# Altium footprint library Molex Footprints.PcbLib: 498 footprints (part 17 of 32)
Each footprint in its own frame and in the unit in brackets; x right, y up, seen from the top. Pads: shape width x height; smd on the part's side, far side on the other; paste and mask are expansions set on the pad; w line width, h text height; cw(c..) or ccw(c..) is an arc to the next point about the centre after c.
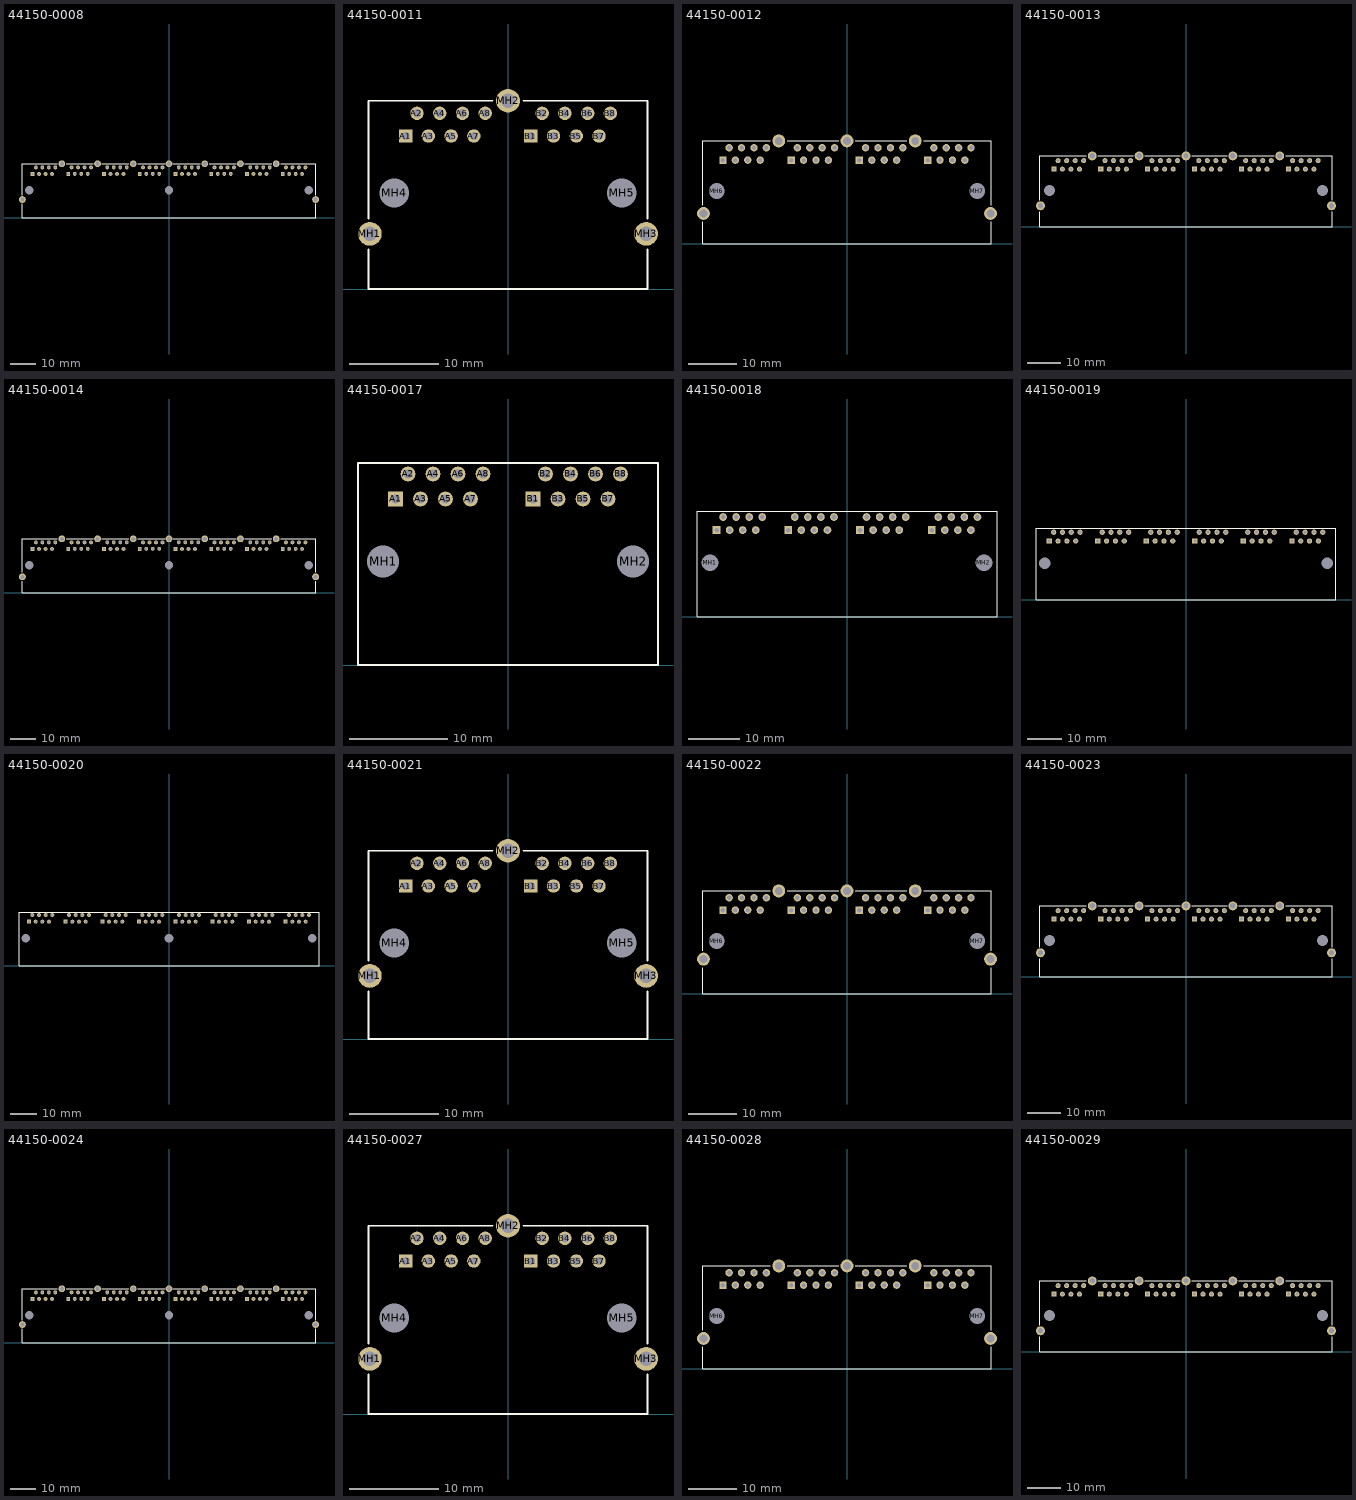
[diagram p16: the footprints below, top view; thin cyan lines are the x and y axes]

## 44150-0008 [mm] "Connector; PCB Jack, Thru-Hole; 8-Port, 8 Positions, 8 Loaded; Shielded without Lightpipes; Right Angle"
height 13.31
pads (76):
  rect 1.5x1.5 hole 0.9: A1(-53.34,17.09) B1(-39.37,17.09) C1(-25.4,17.09) D1(-11.43,17.09) E1(2.54,17.09) F1(16.51,17.09) G1(30.48,17.09) H1(44.45,17.09)
  round 1.5 hole 0.9: A2(-52.07,19.63) A3(-50.8,17.09) A4(-49.53,19.63) A5(-48.26,17.09) A6(-46.99,19.63) A7(-45.72,17.09) A8(-44.45,19.63) B2(-38.1,19.63) B3(-36.83,17.09) B4(-35.56,19.63) B5(-34.29,17.09) B6(-33.02,19.63) B7(-31.75,17.09) B8(-30.48,19.63) C2(-24.13,19.63) C3(-22.86,17.09) C4(-21.59,19.63) C5(-20.32,17.09) C6(-19.05,19.63) C7(-17.78,17.09) C8(-16.51,19.63) D2(-10.16,19.63) D3(-8.89,17.09) D4(-7.62,19.63) D5(-6.35,17.09) D6(-5.08,19.63) D7(-3.81,17.09) D8(-2.54,19.63) E2(3.81,19.63) E3(5.08,17.09) E4(6.35,19.63) E5(7.62,17.09) E6(8.89,19.63) E7(10.16,17.09) E8(11.43,19.63) F2(17.78,19.63) F3(19.05,17.09) F4(20.32,19.63) F5(21.59,17.09) F6(22.86,19.63) F7(24.13,17.09) F8(25.4,19.63) G2(31.75,19.63) G3(33.02,17.09) G4(34.29,19.63) G5(35.56,17.09) G6(36.83,19.63) G7(38.1,17.09) G8(39.37,19.63) H2(45.72,19.63) H3(46.99,17.09) H4(48.26,19.63) H5(49.53,17.09) H6(50.8,19.63) H7(52.07,17.09) H8(53.34,19.63)
  round 2.65 hole 1.6: MH1(-57.328,7.057) MH2(-41.91,21.052) MH3(-27.94,21.052) MH4(-13.97,21.052) MH5(0,21.052) MH6(13.97,21.052) MH7(27.94,21.052) MH8(41.91,21.052) MH9(57.328,7.057)
  round 2.95 hole 3.25 unplated: MH10(-54.61,10.74) MH11(0,10.74) MH12(54.61,10.74)
Top Overlay:
  lines w0.2: -57.47,5.338 -57.47,0 57.47,0 57.47,5.338 ; -57.47,8.776 -57.47,21.02 -43.635,21.02 ; -40.185,21.02 -29.665,21.02 ; -26.215,21.02 -15.695,21.02 ; -12.245,21.02 -1.725,21.02 ; 1.725,21.02 12.245,21.02 ; 15.695,21.02 26.215,21.02 ; 29.665,21.02 40.185,21.02 ; 43.635,21.02 57.47,21.02 57.47,8.776

## 44150-0011 [mm] "Connector; PCB Jack, Thru-Hole; 2-Port, 8 Positions, 8 Loaded; Shielded without Lightpipes; Right Angle"
height 13.31
pads (21):
  rect 1.5x1.5 hole 0.9: A1(-11.43,17.09) B1(2.54,17.09)
  round 1.5 hole 0.9: A2(-10.16,19.63) A3(-8.89,17.09) A4(-7.62,19.63) A5(-6.35,17.09) A6(-5.08,19.63) A7(-3.81,17.09) A8(-2.54,19.63) B2(3.81,19.63) B3(5.08,17.09) B4(6.35,19.63) B5(7.62,17.09) B6(8.89,19.63) B7(10.16,17.09) B8(11.43,19.63)
  round 2.65 hole 1.6: MH1(-15.418,6.168) MH2(0,21.027) MH3(15.418,6.168)
  round 2.95 hole 3.25 unplated: MH4(-12.7,10.74) MH5(12.7,10.74)
Top Overlay:
  lines w0.2: -15.56,4.449 -15.56,0 15.56,0 15.56,4.449 ; -15.56,7.887 -15.56,21.02 -1.725,21.02 ; 1.725,21.02 15.56,21.02 15.56,7.887

## 44150-0012 [mm] "Connector; PCB Jack, Thru-Hole; 4-Port, 8 Positions, 8 Loaded; Shielded without Lightpipes; Right Angle"
height 13.31
pads (39):
  rect 1.5x1.5 hole 0.9: A1(-25.4,17.09) B1(-11.43,17.09) C1(2.54,17.09) D1(16.51,17.09)
  round 1.5 hole 0.9: A2(-24.13,19.63) A3(-22.86,17.09) A4(-21.59,19.63) A5(-20.32,17.09) A6(-19.05,19.63) A7(-17.78,17.09) A8(-16.51,19.63) B2(-10.16,19.63) B3(-8.89,17.09) B4(-7.62,19.63) B5(-6.35,17.09) B6(-5.08,19.63) B7(-3.81,17.09) B8(-2.54,19.63) C2(3.81,19.63) C3(5.08,17.09) C4(6.35,19.63) C5(7.62,17.09) C6(8.89,19.63) C7(10.16,17.09) C8(11.43,19.63) D2(17.78,19.63) D3(19.05,17.09) D4(20.32,19.63) D5(21.59,17.09) D6(22.86,19.63) D7(24.13,17.09) D8(25.4,19.63)
  round 2.65 hole 1.6: MH1(-29.388,6.168) MH2(-13.97,21.027) MH3(0,21.027) MH4(13.97,21.027) MH5(29.388,6.168)
  round 2.95 hole 3.25 unplated: MH6(-26.67,10.74) MH7(26.67,10.74)
Top Overlay:
  lines w0.2: -29.53,4.449 -29.53,0 29.53,0 29.53,4.449 ; -29.53,7.887 -29.53,21.02 -15.695,21.02 ; -12.245,21.02 -1.725,21.02 ; 1.725,21.02 12.245,21.02 ; 15.695,21.02 29.53,21.02 29.53,7.887

## 44150-0013 [mm] "Connector; PCB Jack, Thru-Hole; 6-Port, 8 Positions, 8 Loaded; Shielded without Lightpipes; Right Angle"
height 13.31
pads (57):
  rect 1.5x1.5 hole 0.9: A1(-39.37,17.09) B1(-25.4,17.09) C1(-11.43,17.09) D1(2.54,17.09) E1(16.51,17.09) F1(30.48,17.09)
  round 1.5 hole 0.9: A2(-38.1,19.63) A3(-36.83,17.09) A4(-35.56,19.63) A5(-34.29,17.09) A6(-33.02,19.63) A7(-31.75,17.09) A8(-30.48,19.63) B2(-24.13,19.63) B3(-22.86,17.09) B4(-21.59,19.63) B5(-20.32,17.09) B6(-19.05,19.63) B7(-17.78,17.09) B8(-16.51,19.63) C2(-10.16,19.63) C3(-8.89,17.09) C4(-7.62,19.63) C5(-6.35,17.09) C6(-5.08,19.63) C7(-3.81,17.09) C8(-2.54,19.63) D2(3.81,19.63) D3(5.08,17.09) D4(6.35,19.63) D5(7.62,17.09) D6(8.89,19.63) D7(10.16,17.09) D8(11.43,19.63) E2(17.78,19.63) E3(19.05,17.09) E4(20.32,19.63) E5(21.59,17.09) E6(22.86,19.63) E7(24.13,17.09) E8(25.4,19.63) F2(31.75,19.63) F3(33.02,17.09) F4(34.29,19.63) F5(35.56,17.09) F6(36.83,19.63) F7(38.1,17.09) F8(39.37,19.63)
  round 2.65 hole 1.6: MH1(-43.358,6.168) MH2(-27.94,21.027) MH3(-13.97,21.027) MH4(0,21.027) MH5(13.97,21.027) MH6(27.94,21.027) MH7(43.358,6.168)
  round 2.95 hole 3.25 unplated: MH8(-40.64,10.74) MH9(40.64,10.74)
Top Overlay:
  lines w0.2: -43.5,4.449 -43.5,0 43.5,0 43.5,4.449 ; -43.5,7.887 -43.5,21.02 -29.665,21.02 ; -26.215,21.02 -15.695,21.02 ; -12.245,21.02 -1.725,21.02 ; 1.725,21.02 12.245,21.02 ; 15.695,21.02 26.215,21.02 ; 29.665,21.02 43.5,21.02 43.5,7.887

## 44150-0014 [mm] "Connector; PCB Jack, Thru-Hole; 8-Port, 8 Positions, 8 Loaded; Shielded without Lightpipes; Right Angle"
height 13.31
pads (76):
  rect 1.5x1.5 hole 0.9: A1(-53.34,17.09) B1(-39.37,17.09) C1(-25.4,17.09) D1(-11.43,17.09) E1(2.54,17.09) F1(16.51,17.09) G1(30.48,17.09) H1(44.45,17.09)
  round 1.5 hole 0.9: A2(-52.07,19.63) A3(-50.8,17.09) A4(-49.53,19.63) A5(-48.26,17.09) A6(-46.99,19.63) A7(-45.72,17.09) A8(-44.45,19.63) B2(-38.1,19.63) B3(-36.83,17.09) B4(-35.56,19.63) B5(-34.29,17.09) B6(-33.02,19.63) B7(-31.75,17.09) B8(-30.48,19.63) C2(-24.13,19.63) C3(-22.86,17.09) C4(-21.59,19.63) C5(-20.32,17.09) C6(-19.05,19.63) C7(-17.78,17.09) C8(-16.51,19.63) D2(-10.16,19.63) D3(-8.89,17.09) D4(-7.62,19.63) D5(-6.35,17.09) D6(-5.08,19.63) D7(-3.81,17.09) D8(-2.54,19.63) E2(3.81,19.63) E3(5.08,17.09) E4(6.35,19.63) E5(7.62,17.09) E6(8.89,19.63) E7(10.16,17.09) E8(11.43,19.63) F2(17.78,19.63) F3(19.05,17.09) F4(20.32,19.63) F5(21.59,17.09) F6(22.86,19.63) F7(24.13,17.09) F8(25.4,19.63) G2(31.75,19.63) G3(33.02,17.09) G4(34.29,19.63) G5(35.56,17.09) G6(36.83,19.63) G7(38.1,17.09) G8(39.37,19.63) H2(45.72,19.63) H3(46.99,17.09) H4(48.26,19.63) H5(49.53,17.09) H6(50.8,19.63) H7(52.07,17.09) H8(53.34,19.63)
  round 2.65 hole 1.6: MH1(-57.328,6.168) MH2(-41.91,21.027) MH3(-27.94,21.027) MH4(-13.97,21.027) MH5(0,21.027) MH6(13.97,21.027) MH7(27.94,21.027) MH8(41.91,21.027) MH9(57.328,6.168)
  round 2.95 hole 3.25 unplated: MH10(-54.61,10.74) MH11(0,10.74) MH12(54.61,10.74)
Top Overlay:
  lines w0.2: -57.47,4.449 -57.47,0 57.47,0 57.47,4.449 ; -57.47,7.887 -57.47,21.02 -43.635,21.02 ; -40.185,21.02 -29.665,21.02 ; -26.215,21.02 -15.695,21.02 ; -12.245,21.02 -1.725,21.02 ; 1.725,21.02 12.245,21.02 ; 15.695,21.02 26.215,21.02 ; 29.665,21.02 40.185,21.02 ; 43.635,21.02 57.47,21.02 57.47,7.887

## 44150-0017 [mm] "Connector; PCB Jack, Thru-Hole; 2-Port, 8 Positions, 8 Loaded; Unshielded without Lightpipes; Right Angle"
height 12.83
pads (18):
  rect 1.5x1.5 hole 0.9: A1(-11.43,16.89) B1(2.54,16.89)
  round 1.5 hole 0.9: A2(-10.16,19.43) A3(-8.89,16.89) A4(-7.62,19.43) A5(-6.35,16.89) A6(-5.08,19.43) A7(-3.81,16.89) A8(-2.54,19.43) B2(3.81,19.43) B3(5.08,16.89) B4(6.35,19.43) B5(7.62,16.89) B6(8.89,19.43) B7(10.16,16.89) B8(11.43,19.43)
  round 2.95 hole 3.25 unplated: MH1(-12.7,10.54) MH2(12.7,10.54)
Top Overlay:
  lines w0.2: -15.24,0 -15.24,20.57 15.24,20.57 15.24,0 -15.24,0

## 44150-0018 [mm] "Connector; PCB Jack, Thru-Hole; 4-Port, 8 Positions, 8 Loaded; Unshielded without Lightpipes; Right Angle"
height 12.83
pads (34):
  rect 1.5x1.5 hole 0.9: A1(-25.4,16.89) B1(-11.43,16.89) C1(2.54,16.89) D1(16.51,16.89)
  round 1.5 hole 0.9: A2(-24.13,19.43) A3(-22.86,16.89) A4(-21.59,19.43) A5(-20.32,16.89) A6(-19.05,19.43) A7(-17.78,16.89) A8(-16.51,19.43) B2(-10.16,19.43) B3(-8.89,16.89) B4(-7.62,19.43) B5(-6.35,16.89) B6(-5.08,19.43) B7(-3.81,16.89) B8(-2.54,19.43) C2(3.81,19.43) C3(5.08,16.89) C4(6.35,19.43) C5(7.62,16.89) C6(8.89,19.43) C7(10.16,16.89) C8(11.43,19.43) D2(17.78,19.43) D3(19.05,16.89) D4(20.32,19.43) D5(21.59,16.89) D6(22.86,19.43) D7(24.13,16.89) D8(25.4,19.43)
  round 2.95 hole 3.25 unplated: MH1(-26.67,10.54) MH2(26.67,10.54)
Top Overlay:
  lines w0.2: -29.21,0 -29.21,20.57 29.21,20.57 29.21,0 -29.21,0

## 44150-0019 [mm] "Connector; PCB Jack, Thru-Hole; 6-Port, 8 Positions, 8 Loaded; Unshielded without Lightpipes; Right Angle"
height 12.83
pads (50):
  rect 1.5x1.5 hole 0.9: A1(-39.37,16.89) B1(-25.4,16.89) C1(-11.43,16.89) D1(2.54,16.89) E1(16.51,16.89) F1(30.48,16.89)
  round 1.5 hole 0.9: A2(-38.1,19.43) A3(-36.83,16.89) A4(-35.56,19.43) A5(-34.29,16.89) A6(-33.02,19.43) A7(-31.75,16.89) A8(-30.48,19.43) B2(-24.13,19.43) B3(-22.86,16.89) B4(-21.59,19.43) B5(-20.32,16.89) B6(-19.05,19.43) B7(-17.78,16.89) B8(-16.51,19.43) C2(-10.16,19.43) C3(-8.89,16.89) C4(-7.62,19.43) C5(-6.35,16.89) C6(-5.08,19.43) C7(-3.81,16.89) C8(-2.54,19.43) D2(3.81,19.43) D3(5.08,16.89) D4(6.35,19.43) D5(7.62,16.89) D6(8.89,19.43) D7(10.16,16.89) D8(11.43,19.43) E2(17.78,19.43) E3(19.05,16.89) E4(20.32,19.43) E5(21.59,16.89) E6(22.86,19.43) E7(24.13,16.89) E8(25.4,19.43) F2(31.75,19.43) F3(33.02,16.89) F4(34.29,19.43) F5(35.56,16.89) F6(36.83,19.43) F7(38.1,16.89) F8(39.37,19.43)
  round 2.95 hole 3.25 unplated: MH1(-40.64,10.54) MH2(40.64,10.54)
Top Overlay:
  lines w0.2: -43.18,0 -43.18,20.57 43.18,20.57 43.18,0 -43.18,0

## 44150-0020 [mm] "Connector; PCB Jack, Thru-Hole; 8-Port, 8 Positions, 8 Loaded; Unshielded without Lightpipes; Right Angle"
height 12.83
pads (67):
  rect 1.5x1.5 hole 0.9: A1(-53.34,16.89) B1(-39.37,16.89) C1(-25.4,16.89) D1(-11.43,16.89) E1(2.54,16.89) F1(16.51,16.89) G1(30.48,16.89) H1(44.45,16.89)
  round 1.5 hole 0.9: A2(-52.07,19.43) A3(-50.8,16.89) A4(-49.53,19.43) A5(-48.26,16.89) A6(-46.99,19.43) A7(-45.72,16.89) A8(-44.45,19.43) B2(-38.1,19.43) B3(-36.83,16.89) B4(-35.56,19.43) B5(-34.29,16.89) B6(-33.02,19.43) B7(-31.75,16.89) B8(-30.48,19.43) C2(-24.13,19.43) C3(-22.86,16.89) C4(-21.59,19.43) C5(-20.32,16.89) C6(-19.05,19.43) C7(-17.78,16.89) C8(-16.51,19.43) D2(-10.16,19.43) D3(-8.89,16.89) D4(-7.62,19.43) D5(-6.35,16.89) D6(-5.08,19.43) D7(-3.81,16.89) D8(-2.54,19.43) E2(3.81,19.43) E3(5.08,16.89) E4(6.35,19.43) E5(7.62,16.89) E6(8.89,19.43) E7(10.16,16.89) E8(11.43,19.43) F2(17.78,19.43) F3(19.05,16.89) F4(20.32,19.43) F5(21.59,16.89) F6(22.86,19.43) F7(24.13,16.89) F8(25.4,19.43) G2(31.75,19.43) G3(33.02,16.89) G4(34.29,19.43) G5(35.56,16.89) G6(36.83,19.43) G7(38.1,16.89) G8(39.37,19.43) H2(45.72,19.43) H3(46.99,16.89) H4(48.26,19.43) H5(49.53,16.89) H6(50.8,19.43) H7(52.07,16.89) H8(53.34,19.43)
  round 2.95 hole 3.25 unplated: MH1(-54.61,10.54) MH2(0,10.54) MH3(54.61,10.54)
Top Overlay:
  lines w0.2: -57.15,0 -57.15,20.57 57.15,20.57 57.15,0 -57.15,0

## 44150-0021 [mm] "Connector; PCB Jack, Thru-Hole; 2-Port, 8 Positions, 8 Loaded; Shielded without Lightpipes; Right Angle"
height 13.31
pads (21):
  rect 1.5x1.5 hole 0.9: A1(-11.43,17.09) B1(2.54,17.09)
  round 1.5 hole 0.9: A2(-10.16,19.63) A3(-8.89,17.09) A4(-7.62,19.63) A5(-6.35,17.09) A6(-5.08,19.63) A7(-3.81,17.09) A8(-2.54,19.63) B2(3.81,19.63) B3(5.08,17.09) B4(6.35,19.63) B5(7.62,17.09) B6(8.89,19.63) B7(10.16,17.09) B8(11.43,19.63)
  round 2.65 hole 1.6: MH1(-15.418,7.057) MH2(0,21.027) MH3(15.418,7.057)
  round 2.95 hole 3.25 unplated: MH4(-12.7,10.74) MH5(12.7,10.74)
Top Overlay:
  lines w0.2: -15.56,5.338 -15.56,0 15.56,0 15.56,5.338 ; -15.56,8.776 -15.56,21.02 -1.725,21.02 ; 1.725,21.02 15.56,21.02 15.56,8.776

## 44150-0022 [mm] "Connector; PCB Jack, Thru-Hole; 4-Port, 8 Positions, 8 Loaded; Shielded without Lightpipes; Right Angle"
height 13.31
pads (39):
  rect 1.5x1.5 hole 0.9: A1(-25.4,17.09) B1(-11.43,17.09) C1(2.54,17.09) D1(16.51,17.09)
  round 1.5 hole 0.9: A2(-24.13,19.63) A3(-22.86,17.09) A4(-21.59,19.63) A5(-20.32,17.09) A6(-19.05,19.63) A7(-17.78,17.09) A8(-16.51,19.63) B2(-10.16,19.63) B3(-8.89,17.09) B4(-7.62,19.63) B5(-6.35,17.09) B6(-5.08,19.63) B7(-3.81,17.09) B8(-2.54,19.63) C2(3.81,19.63) C3(5.08,17.09) C4(6.35,19.63) C5(7.62,17.09) C6(8.89,19.63) C7(10.16,17.09) C8(11.43,19.63) D2(17.78,19.63) D3(19.05,17.09) D4(20.32,19.63) D5(21.59,17.09) D6(22.86,19.63) D7(24.13,17.09) D8(25.4,19.63)
  round 2.65 hole 1.6: MH1(-29.388,7.057) MH2(-13.97,21.027) MH3(0,21.027) MH4(13.97,21.027) MH5(29.388,7.057)
  round 2.95 hole 3.25 unplated: MH6(-26.67,10.74) MH7(26.67,10.74)
Top Overlay:
  lines w0.2: -29.53,5.338 -29.53,0 29.53,0 29.53,5.338 ; -29.53,8.776 -29.53,21.02 -15.695,21.02 ; -12.245,21.02 -1.725,21.02 ; 1.725,21.02 12.245,21.02 ; 15.695,21.02 29.53,21.02 29.53,8.776

## 44150-0023 [mm] "Connector; PCB Jack, Thru-Hole; 6-Port, 8 Positions, 8 Loaded; Shielded without Lightpipes; Right Angle"
height 13.31
pads (57):
  rect 1.5x1.5 hole 0.9: A1(-39.37,17.09) B1(-25.4,17.09) C1(-11.43,17.09) D1(2.54,17.09) E1(16.51,17.09) F1(30.48,17.09)
  round 1.5 hole 0.9: A2(-38.1,19.63) A3(-36.83,17.09) A4(-35.56,19.63) A5(-34.29,17.09) A6(-33.02,19.63) A7(-31.75,17.09) A8(-30.48,19.63) B2(-24.13,19.63) B3(-22.86,17.09) B4(-21.59,19.63) B5(-20.32,17.09) B6(-19.05,19.63) B7(-17.78,17.09) B8(-16.51,19.63) C2(-10.16,19.63) C3(-8.89,17.09) C4(-7.62,19.63) C5(-6.35,17.09) C6(-5.08,19.63) C7(-3.81,17.09) C8(-2.54,19.63) D2(3.81,19.63) D3(5.08,17.09) D4(6.35,19.63) D5(7.62,17.09) D6(8.89,19.63) D7(10.16,17.09) D8(11.43,19.63) E2(17.78,19.63) E3(19.05,17.09) E4(20.32,19.63) E5(21.59,17.09) E6(22.86,19.63) E7(24.13,17.09) E8(25.4,19.63) F2(31.75,19.63) F3(33.02,17.09) F4(34.29,19.63) F5(35.56,17.09) F6(36.83,19.63) F7(38.1,17.09) F8(39.37,19.63)
  round 2.65 hole 1.6: MH1(-43.358,7.057) MH2(-27.94,21.027) MH3(-13.97,21.027) MH4(0,21.027) MH5(13.97,21.027) MH6(27.94,21.027) MH7(43.358,7.057)
  round 2.95 hole 3.25 unplated: MH8(-40.64,10.74) MH9(40.64,10.74)
Top Overlay:
  lines w0.2: -43.5,5.338 -43.5,0 43.5,0 43.5,5.338 ; -43.5,8.776 -43.5,21.02 -29.665,21.02 ; -26.215,21.02 -15.695,21.02 ; -12.245,21.02 -1.725,21.02 ; 1.725,21.02 12.245,21.02 ; 15.695,21.02 26.215,21.02 ; 29.665,21.02 43.5,21.02 43.5,8.776

## 44150-0024 [mm] "Connector; PCB Jack, Thru-Hole; 8-Port, 8 Positions, 8 Loaded; Shielded without Lightpipes; Right Angle"
height 13.31
pads (76):
  rect 1.5x1.5 hole 0.9: A1(-53.34,17.09) B1(-39.37,17.09) C1(-25.4,17.09) D1(-11.43,17.09) E1(2.54,17.09) F1(16.51,17.09) G1(30.48,17.09) H1(44.45,17.09)
  round 1.5 hole 0.9: A2(-52.07,19.63) A3(-50.8,17.09) A4(-49.53,19.63) A5(-48.26,17.09) A6(-46.99,19.63) A7(-45.72,17.09) A8(-44.45,19.63) B2(-38.1,19.63) B3(-36.83,17.09) B4(-35.56,19.63) B5(-34.29,17.09) B6(-33.02,19.63) B7(-31.75,17.09) B8(-30.48,19.63) C2(-24.13,19.63) C3(-22.86,17.09) C4(-21.59,19.63) C5(-20.32,17.09) C6(-19.05,19.63) C7(-17.78,17.09) C8(-16.51,19.63) D2(-10.16,19.63) D3(-8.89,17.09) D4(-7.62,19.63) D5(-6.35,17.09) D6(-5.08,19.63) D7(-3.81,17.09) D8(-2.54,19.63) E2(3.81,19.63) E3(5.08,17.09) E4(6.35,19.63) E5(7.62,17.09) E6(8.89,19.63) E7(10.16,17.09) E8(11.43,19.63) F2(17.78,19.63) F3(19.05,17.09) F4(20.32,19.63) F5(21.59,17.09) F6(22.86,19.63) F7(24.13,17.09) F8(25.4,19.63) G2(31.75,19.63) G3(33.02,17.09) G4(34.29,19.63) G5(35.56,17.09) G6(36.83,19.63) G7(38.1,17.09) G8(39.37,19.63) H2(45.72,19.63) H3(46.99,17.09) H4(48.26,19.63) H5(49.53,17.09) H6(50.8,19.63) H7(52.07,17.09) H8(53.34,19.63)
  round 2.65 hole 1.6: MH1(-57.328,7.057) MH2(-41.91,21.052) MH3(-27.94,21.052) MH4(-13.97,21.052) MH5(0,21.052) MH6(13.97,21.052) MH7(27.94,21.052) MH8(41.91,21.052) MH9(57.328,7.057)
  round 2.95 hole 3.25 unplated: MH10(-54.61,10.74) MH11(0,10.74) MH12(54.61,10.74)
Top Overlay:
  lines w0.2: -57.47,5.338 -57.47,0 57.47,0 57.47,5.338 ; -57.47,8.776 -57.47,21.02 -43.635,21.02 ; -40.185,21.02 -29.665,21.02 ; -26.215,21.02 -15.695,21.02 ; -12.245,21.02 -1.725,21.02 ; 1.725,21.02 12.245,21.02 ; 15.695,21.02 26.215,21.02 ; 29.665,21.02 40.185,21.02 ; 43.635,21.02 57.47,21.02 57.47,8.776

## 44150-0027 [mm] "Connector; PCB Jack, Thru-Hole; 2-Port, 8 Positions, 8 Loaded; Shielded without Lightpipes; Right Angle"
height 13.31
pads (21):
  rect 1.5x1.5 hole 0.9: A1(-11.43,17.09) B1(2.54,17.09)
  round 1.5 hole 0.9: A2(-10.16,19.63) A3(-8.89,17.09) A4(-7.62,19.63) A5(-6.35,17.09) A6(-5.08,19.63) A7(-3.81,17.09) A8(-2.54,19.63) B2(3.81,19.63) B3(5.08,17.09) B4(6.35,19.63) B5(7.62,17.09) B6(8.89,19.63) B7(10.16,17.09) B8(11.43,19.63)
  round 2.65 hole 1.6: MH1(-15.418,6.168) MH2(0,21.027) MH3(15.418,6.168)
  round 2.95 hole 3.25 unplated: MH4(-12.7,10.74) MH5(12.7,10.74)
Top Overlay:
  lines w0.2: -15.56,4.449 -15.56,0 15.56,0 15.56,4.449 ; -15.56,7.887 -15.56,21.02 -1.725,21.02 ; 1.725,21.02 15.56,21.02 15.56,7.887

## 44150-0028 [mm] "Connector; PCB Jack, Thru-Hole; 4-Port, 8 Positions, 8 Loaded; Shielded without Lightpipes; Right Angle"
height 13.31
pads (39):
  rect 1.5x1.5 hole 0.9: A1(-25.4,17.09) B1(-11.43,17.09) C1(2.54,17.09) D1(16.51,17.09)
  round 1.5 hole 0.9: A2(-24.13,19.63) A3(-22.86,17.09) A4(-21.59,19.63) A5(-20.32,17.09) A6(-19.05,19.63) A7(-17.78,17.09) A8(-16.51,19.63) B2(-10.16,19.63) B3(-8.89,17.09) B4(-7.62,19.63) B5(-6.35,17.09) B6(-5.08,19.63) B7(-3.81,17.09) B8(-2.54,19.63) C2(3.81,19.63) C3(5.08,17.09) C4(6.35,19.63) C5(7.62,17.09) C6(8.89,19.63) C7(10.16,17.09) C8(11.43,19.63) D2(17.78,19.63) D3(19.05,17.09) D4(20.32,19.63) D5(21.59,17.09) D6(22.86,19.63) D7(24.13,17.09) D8(25.4,19.63)
  round 2.65 hole 1.6: MH1(-29.388,6.168) MH2(-13.97,21.027) MH3(0,21.027) MH4(13.97,21.027) MH5(29.388,6.168)
  round 2.95 hole 3.25 unplated: MH6(-26.67,10.74) MH7(26.67,10.74)
Top Overlay:
  lines w0.2: -29.53,4.449 -29.53,0 29.53,0 29.53,4.449 ; -29.53,7.887 -29.53,21.02 -15.695,21.02 ; -12.245,21.02 -1.725,21.02 ; 1.725,21.02 12.245,21.02 ; 15.695,21.02 29.53,21.02 29.53,7.887

## 44150-0029 [mm] "Connector; PCB Jack, Thru-Hole; 6-Port, 8 Positions, 8 Loaded; Shielded without Lightpipes; Right Angle"
height 13.31
pads (57):
  rect 1.5x1.5 hole 0.9: A1(-39.37,17.09) B1(-25.4,17.09) C1(-11.43,17.09) D1(2.54,17.09) E1(16.51,17.09) F1(30.48,17.09)
  round 1.5 hole 0.9: A2(-38.1,19.63) A3(-36.83,17.09) A4(-35.56,19.63) A5(-34.29,17.09) A6(-33.02,19.63) A7(-31.75,17.09) A8(-30.48,19.63) B2(-24.13,19.63) B3(-22.86,17.09) B4(-21.59,19.63) B5(-20.32,17.09) B6(-19.05,19.63) B7(-17.78,17.09) B8(-16.51,19.63) C2(-10.16,19.63) C3(-8.89,17.09) C4(-7.62,19.63) C5(-6.35,17.09) C6(-5.08,19.63) C7(-3.81,17.09) C8(-2.54,19.63) D2(3.81,19.63) D3(5.08,17.09) D4(6.35,19.63) D5(7.62,17.09) D6(8.89,19.63) D7(10.16,17.09) D8(11.43,19.63) E2(17.78,19.63) E3(19.05,17.09) E4(20.32,19.63) E5(21.59,17.09) E6(22.86,19.63) E7(24.13,17.09) E8(25.4,19.63) F2(31.75,19.63) F3(33.02,17.09) F4(34.29,19.63) F5(35.56,17.09) F6(36.83,19.63) F7(38.1,17.09) F8(39.37,19.63)
  round 2.65 hole 1.6: MH1(-43.358,6.168) MH2(-27.94,21.027) MH3(-13.97,21.027) MH4(0,21.027) MH5(13.97,21.027) MH6(27.94,21.027) MH7(43.358,6.168)
  round 2.95 hole 3.25 unplated: MH8(-40.64,10.74) MH9(40.64,10.74)
Top Overlay:
  lines w0.2: -43.5,4.449 -43.5,0 43.5,0 43.5,4.449 ; -43.5,7.887 -43.5,21.02 -29.665,21.02 ; -26.215,21.02 -15.695,21.02 ; -12.245,21.02 -1.725,21.02 ; 1.725,21.02 12.245,21.02 ; 15.695,21.02 26.215,21.02 ; 29.665,21.02 43.5,21.02 43.5,7.887